# Altium footprint library Inductor and Transformers.PcbLib: 1 footprints
Each footprint in its own frame and in the unit in brackets; x right, y up, seen from the top. Pads: shape width x height; smd on the part's side, far side on the other; paste and mask are expansions set on the pad; w line width, h text height; cw(c..) or ccw(c..) is an arc to the next point about the centre after c.
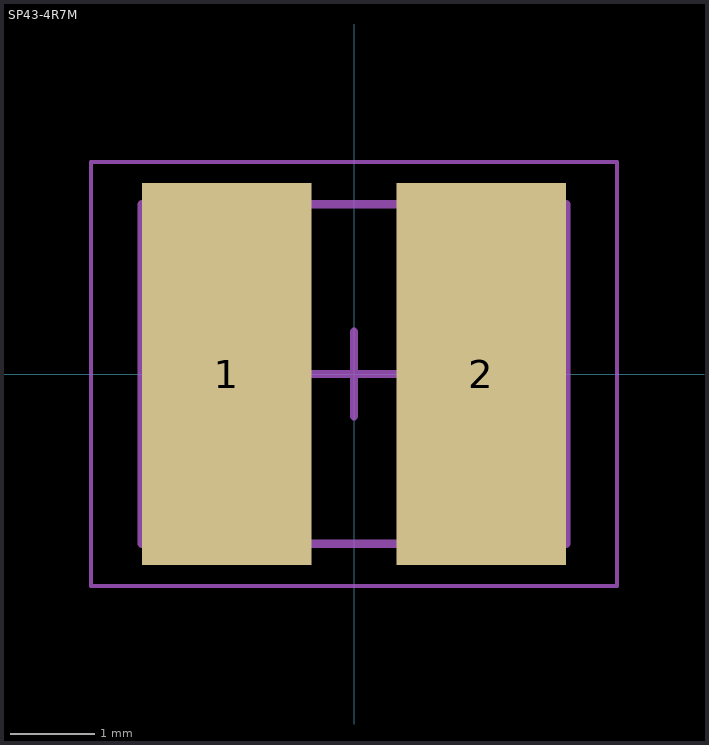
[diagram p0: the footprint, top view; thin cyan lines are the x and y axes]

## SP43-4R7M [mm] "Chip Inductor, 2-Leads, Body 4,50x4,00mm, IPC Medium Density"
height 3.2
pads (2):
  rect 2x4.5 smd: 1(-1.5,0) 2(1.5,0)
Top Assembly:
  lines w0.1: -2.5,-2 -2.5,2 2.5,2 2.5,-2 -2.5,-2
Top Courtyard:
  lines w0.05: -3.1,-2.5 -3.1,2.5 3.1,2.5 3.1,-2.5 -3.1,-2.5
  lines w0.1: -0.5,0 0.5,0 ; 0,-0.5 0,0.5
3D body "INDC4540X32N.step": height 3.2, standoff 0, extent -2.5,-2 2.5,2